# Altium footprint library Connectors.PcbLib: 94 footprints (part 6 of 6)
Each footprint in its own frame and in the unit in brackets; x right, y up, seen from the top. Pads: shape width x height; smd on the part's side, far side on the other; paste and mask are expansions set on the pad; w line width, h text height; cw(c..) or ccw(c..) is an arc to the next point about the centre after c.
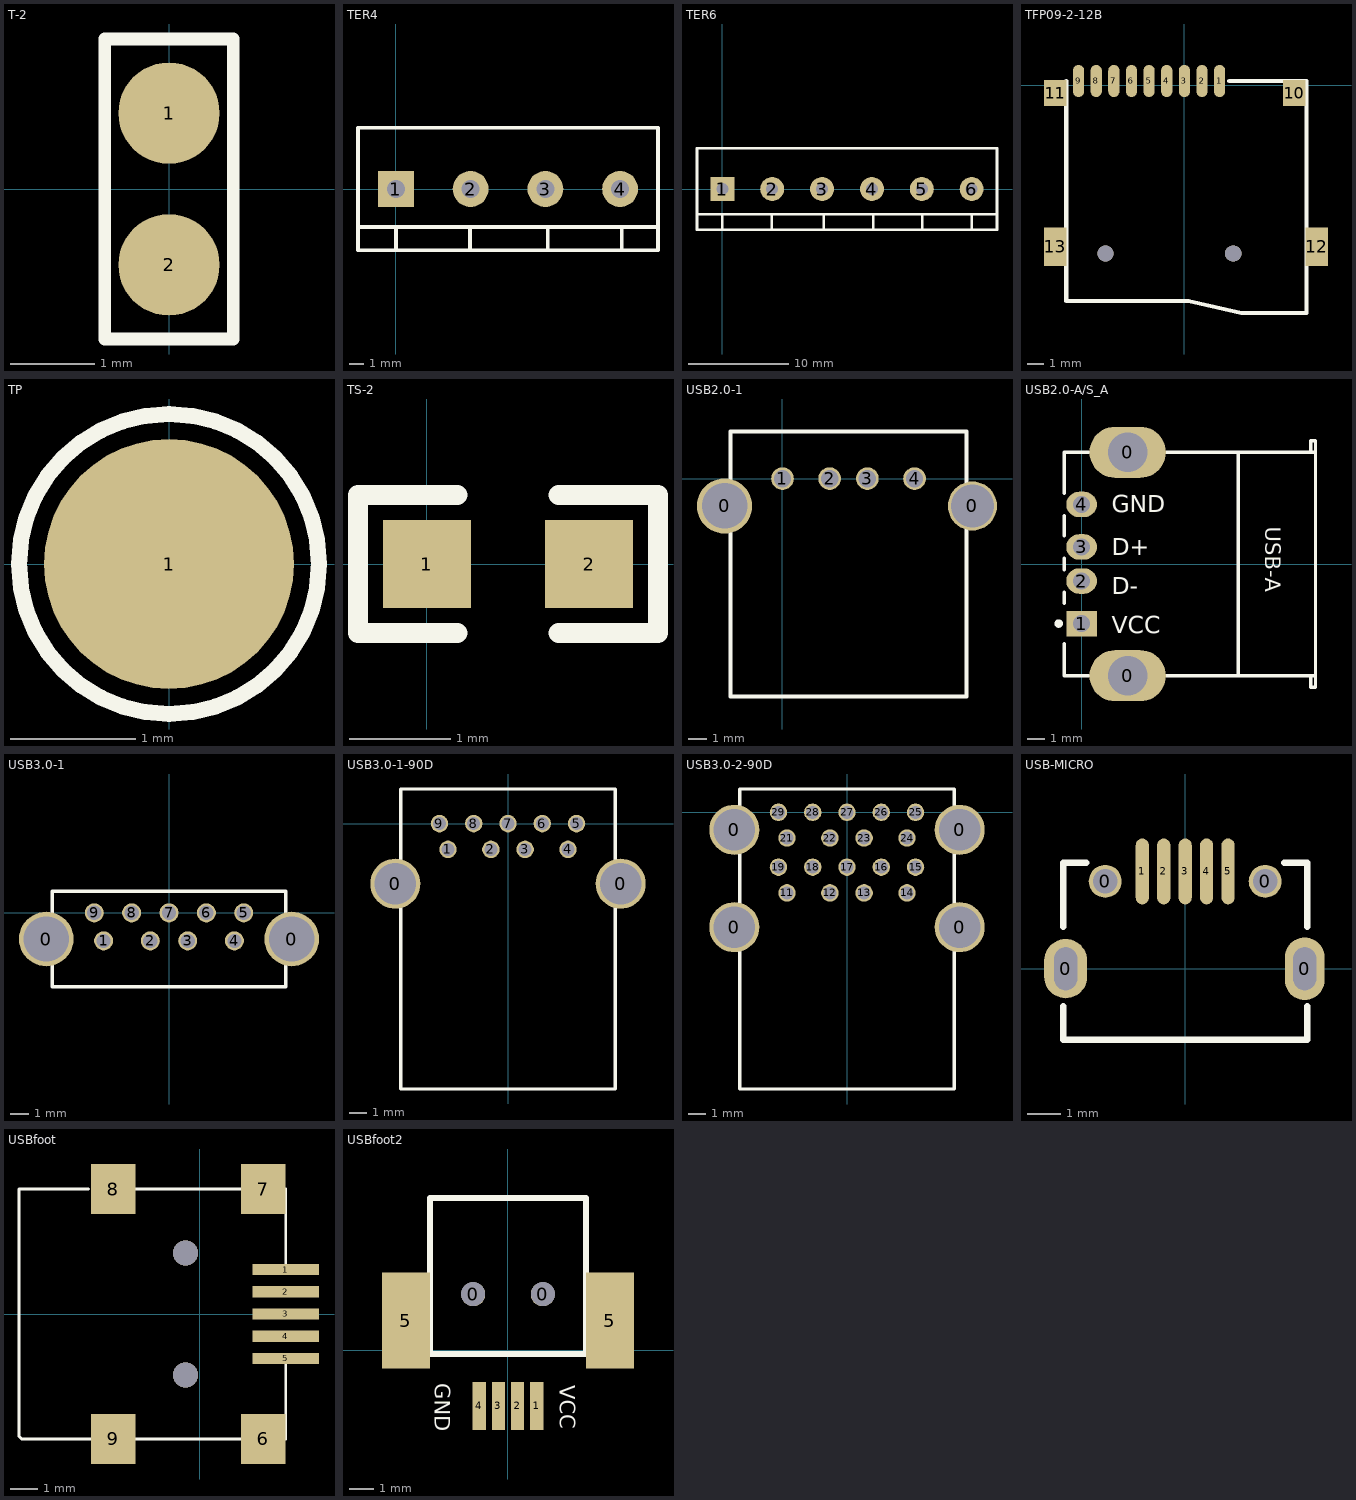
[diagram p5: the footprints below, top view; thin cyan lines are the x and y axes]

## T-2 [mm] "RESET 2"
pads (2):
  round 1.2 smd: 1(0,0.9) 2(0,-0.9)
Top Overlay:
  lines w0.15: -0.762,-1.778 0.762,-1.778 0.762,1.778 -0.762,1.778 -0.762,-1.778

## TER4 [mm] "Terminals ,4Pin,5.08mm"
pads (4):
  rect 2.4x2.4 hole 1.2: 1(0,0)
  round 2.4 hole 1.2: 2(5,0) 3(10,0) 4(15,0)
Top Overlay:
  lines w0.127: 17.373,-2.54 17.5,-2.413
  lines w0.254: -2.54,-2.54 17.54,-2.54 ; 0,-4.1 0,-2.54 ; 4.953,-3.973 4.953,-2.54 ; 10.16,-4.1 10.16,-2.54 ; 15.113,-4.1 15.113,-2.54 ; -2.54,-4.1 17.54,-4.1 17.54,4.1 -2.54,4.1 -2.54,-4.1

## TER6 [mm] "Terminals,3Pin,5.08mm"
pads (6):
  rect 2.4x2.4 hole 1.2: 1(0,0)
  round 2.4 hole 1.2: 2(5,0) 3(10,0) 4(15,0) 5(20,0) 6(25,0)
Top Overlay:
  lines w0.254: -2.54,-2.54 27.54,-2.54 ; 0,-4.1 0,-2.54 ; 4.953,-3.973 4.953,-2.54 ; 10.16,-4.1 10.16,-2.54 ; 15.113,-4.1 15.113,-2.54 ; 20.066,-4.1 20.066,-2.54 ; 25.019,-4.1 25.019,-2.54 ; -2.54,-4.1 -2.54,4.1 27.54,4.1 27.54,-4.1 -2.54,-4.1

## TFP09-2-12B [mm]
pads (13):
  oval 0.7x2 smd: 1(2.2,0.254) 2(1.1,0.254) 3(0,0.254) 4(-1.1,0.254) 5(-2.2,0.254) 6(-3.3,0.254) 7(-4.4,0.254) 8(-5.5,0.254) 9(-6.6,0.254)
  rect 1.4x1.6 smd: 10(6.85,-0.5) 11(-8.054,-0.5)
  rect 1.4x2.4 smd: 12(8.258,-10.1) 13(-8.054,-10.1)
via -4.93,-10.5 diameter 1 hole 1
via 3.05,-10.5 diameter 1 hole 1
Top Overlay:
  lines w0.254: -7.366,0.254 -7.366,-13.462 0.254,-13.462 3.556,-14.224 7.62,-14.224 7.62,0.254 2.8,0.254

## TP [mm] "test"
pads (1):
  round 2 smd: 1(0,0)
Top Overlay:
  circle w0.127: c0,0 r1.2

## TS-2 [mm] "1.6*0.8mm"
pads (2):
  rect 0.87x0.87 smd: 1(0,0) 2(1.6,0)
Top Overlay:
  lines w0.2: -0.68,-0.68 -0.68,0.68 ; -0.65,-0.68 0.3,-0.68 ; -0.65,0.68 0.3,0.68 ; 1.3,-0.68 2.28,-0.68 2.28,0.68 1.3,0.68

## USB2.0-1 [mm]
pads (6):
  round 2.921 hole 2.413: 0(-3.07,-1.45)
  round 2.6 hole 2.3: 0(10.07,-1.45)
  round 1.2 hole 0.92: 1(0,0) 2(2.5,0) 3(4.5,0) 4(7,0)
Top Overlay:
  lines w0.2: -2.75,-11.55 9.75,-11.55 9.75,2.5 -2.75,2.5 -2.75,-11.55

## USB2.0-A/S_A [mm] "A型直插母头"
height 7.01
pads (6):
  oval 4.5x3 hole 2.3: 0(2.71,-6.57) 0(2.71,6.57)
  rect 1.8x1.5 hole 1: 1(0,-3.5)
  oval 1.8x1.5 hole 1: 2(0,-1) 3(0,1) 4(0,3.5)
Top Overlay:
  circle w0.25: c-1.35,-3.5 r0.125
  lines w0.2: -1.01,-4.7 -1.01,-6.565 0.41,-6.565 ; -1.01,-2.3 -1.01,-1.66 ; -1.01,-0.34 -1.01,0.34 ; -1.01,1.66 -1.01,2.84 ; -1.01,4.16 -1.01,6.565 0.41,6.565 ; 5.01,-6.565 13.752,-6.565 ; 5.01,6.565 13.752,6.565 ; 13.462,-6.565 13.462,-7.25 13.752,-7.25 13.752,7.25 13.462,7.25 13.462,6.565
  lines w0.203: 9.21,-6.565 9.21,6.565
  text "GND" at 1.778,3.048 h1.02
  text "D+" at 1.778,0.508 h1.02
  text "D-" at 1.778,-1.778 h1.02
  text "VCC" at 1.778,-4.064 h1.02
  text "USB-A" at 10.8,2.2 h0.9
3D body: height 6.8, standoff -4.31, extent -0.605,-7.342 13.7,7.342

## USB3.0-1 [mil]
height 600
pads (11):
  round 115 hole 95: 0(-258.66,-55.12) 0(258.66,-55.12)
  round 40 hole 30: 1(-137.8,-59.06) 2(-39.37,-59.06) 3(39.37,-59.06) 4(137.8,-59.06) 5(157.48,0) 6(78.74,0) 7(0,0) 8(-78.74,0) 9(-157.48,0)
Top Overlay:
  lines w7.87: -246.06,-155.91 246.06,-155.91 246.06,45.67 -246.06,45.67 -246.06,-155.91

## USB3.0-1-90D [mil]
height 350
pads (11):
  round 115 hole 95: 0(-258.66,-137.8) 0(258.66,-137.8)
  round 40 hole 30: 1(-137.8,-59.06) 2(-39.37,-59.06) 3(39.37,-59.06) 4(137.8,-59.06) 5(157.48,0) 6(78.74,0) 7(0,0) 8(-78.74,0) 9(-157.48,0)
Top Overlay:
  lines w7.87: -246.06,-609.45 -246.06,79.53 246.06,79.53 246.06,-609.45 -246.06,-609.45

## USB3.0-2-90D [mil]
height 700
pads (22):
  round 115 hole 95: 0(-258.66,-263.78) 0(-258.66,-40.16) 0(258.66,-263.78) 0(258.66,-40.16)
  round 40 hole 30: 11(-137.8,-185.04) 12(-39.37,-185.04) 13(39.37,-185.04) 14(137.8,-185.04) 15(157.48,-125.98) 16(78.74,-125.98) 17(0,-125.98) 18(-78.74,-125.98) 19(-157.48,-125.98) 21(-137.8,-59.06) 22(-39.37,-59.06) 23(39.37,-59.06) 24(137.8,-59.06) 25(157.48,0) 26(78.74,0) 27(0,0) 28(-78.74,0) 29(-157.48,0)
Top Overlay:
  lines w7.87: -246.06,-635.43 246.06,-635.43 246.06,53.54 -246.06,53.54 -246.06,-635.43

## USB-MICRO [mm] "USB方孔"
height 8
pads (9):
  oval 1.3x1.8 hole 0.7 slot 1.3 at 90 deg: 0(-3.625,0)
  round 1 hole 0.75: 0(-2.425,2.65) 0(2.425,2.65)
  oval 1.2x1.9 hole 0.7 slot 1.3 at 90 deg: 0(3.625,0)
  oval 0.4x2 smd: 1(-1.3,2.95) 2(-0.65,2.95) 3(0,2.95) 4(0.65,2.95) 5(1.3,2.95)
Top Overlay:
  lines w0.2: -3.7,-1.143 -3.7,-2.15 3.7,-2.15 3.7,-1.143 ; -3.7,1.27 -3.7,3.21 -3,3.21 ; 3,3.21 3.7,3.21 3.7,1.27

## USBfoot [mm]
pads (9):
  rect 2.4x0.4 smd: 1(3.1,1.6) 2(3.1,0.8) 3(3.1,0) 4(3.1,-0.8) 5(3.1,-1.6)
  rect 1.6x1.8 smd: 6(2.3,-4.5) 7(2.3,4.5) 8(-3.1,4.5) 9(-3.1,-4.5)
via -0.5,-2.2 diameter 0.9 hole 0.9
via -0.5,2.2 diameter 0.9 hole 0.9
Top Overlay:
  lines w0.1: -4,4.5 -6.5,4.5 -6.5,-4.4 -6.4,-4.5 -3.9,-4.5 ; -2.3,-4.5 1.5,-4.5 ; -2.3,4.5 1.5,4.5 ; 3.1,-4.5 3.1,-1.8 ; 3.1,1.8 3.1,4.5

## USBfoot2 [mm]
pads (8):
  round 1 hole 1: 0(-1.45,2.325) 0(1.45,2.325)
  rect 0.55x2 smd: 1(1.2,-2.325) 2(0.4,-2.325) 3(-0.4,-2.325) 4(-1.2,-2.325)
  rect 2x4 smd: 5(-4.25,1.225) 5(4.25,1.225)
Top Overlay:
  lines w0.254: -3.25,-0.175 3.25,-0.175 3.25,6.325 -3.25,6.325 -3.25,-0.175
  text "GND" at -3.05,-1.375 h0.64
  text "VCC" at 2.15,-1.475 h0.64